# EAGLE library part IPZ40N04S5L7R4ATMA1 (library SamacSys_Parts)
INFINEON - IPZ40N04S5L7R4ATMA1 - MOSFET, AEC-Q101, N-CH, 40V, TSDSON Source: Datasheet <https://www.infineon.com/dgdl/Infineon-IPZ40N04S5L-7R4-DS-v01_00-EN.pdf?fileId=5546d4624cb7f111014d6601321448a0>
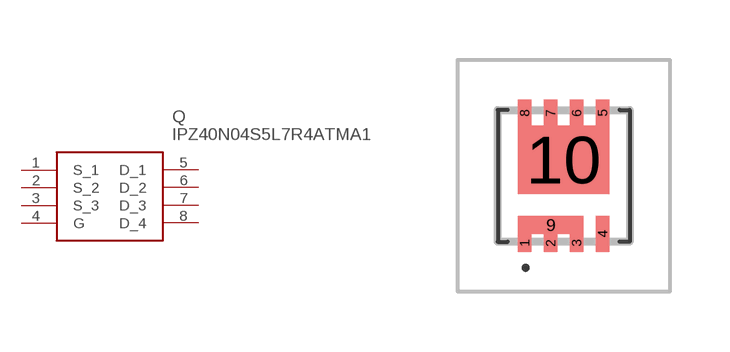
[diagram p0: symbol with the pads of IPZ40N04S5L7R4ATMA1; footprint IPZ40N04S5L7R4ATMA1]

Designator prefix Q

## IPZ40N04S5L7R4ATMA1 (ARROW_PART_NUMBER: IPZ40N04S5L7R4ATMA1; ARROW_PRICE-STOCK: https://www.arrow.com/en/products/ipz40n04s5l7r4atma1/infineon-technologies-ag; DESCRIPTION: INFINEON - IPZ40N04S5L7R4ATMA1 - MOSFET, AEC-Q101, N-CH, 40V, TSDSON; HEIGHT: mm; MANUFACTURER_NAME: Infineon; MANUFACTURER_PART_NUMBER: IPZ40N04S5L7R4ATMA1; MOUSER_PART_NUMBER: 726-IPZ40N04S5L7R4AT; MOUSER_PRICE-STOCK: https://www.mouser.co.uk/ProductDetail/Infineon-Technologies/IPZ40N04S5L7R4ATMA1?qs=RJIhqtkBntMJfptUOROQRQ%3D%3D)  [IPZ40N04S5L7R4ATMA1]
1  S_1
2  S_2
3  S_3
4  G
5  D_1
6  D_2
7  D_3
8  D_4

## Footprint IPZ40N04S5L7R4ATMA1 (pad centres in mm)
PG-TSDSON-8-32_2019
smd 0.34 x 0.45: 1 -0.975,-1.675; 2 -0.325,-1.675; 3 0.325,-1.675
smd 0.34 x 0.9: 4 0.975,-1.45
smd 0.34 x 0.65: 5 0.975,1.58; 6 0.325,1.58; 7 -0.325,1.58; 8 -0.975,1.58
smd 1.64 x 0.45: 9 -0.325,-1.225
smd 2.29 x 1.71: 10 0,0.4